# EAGLE library part STM8S003F3 (library comp_RFSwitch_v3)
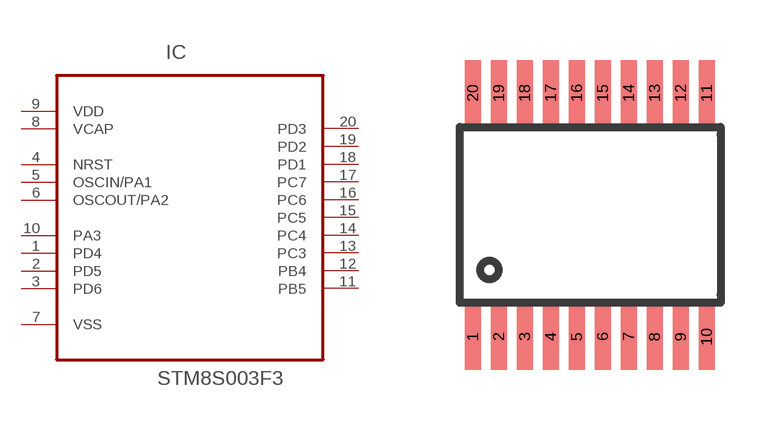
[diagram p5: symbol with the pads of TSSOP20; footprint TSSOP20]

Designator prefix IC

## STM8S003F3  [TSSOP20]
1  PD4
2  PD5
3  PD6
4  NRST
5  OSCIN/PA1
6  OSCOUT/PA2
7  VSS  pwr
8  VCAP  pwr
9  VDD  pwr
10  PA3
11  PB5
12  PB4
13  PC3
14  PC4
15  PC5
16  PC6
17  PC7
18  PD1
19  PD2
20  PD3

## Footprint TSSOP20 (pad centres in mm)
smd 0.4 x 1.65: 1 -3.575,-3.05; 2 -2.925,-3.05; 3 -2.275,-3.05; 4 -1.625,-3.05; 5 -0.975,-3.05; 6 -0.325,-3.05; 7 0.325,-3.05; 8 0.975,-3.05; 9 1.625,-3.05; 10 2.275,-3.05; 11 2.275,3.05; 12 1.625,3.05; 13 0.975,3.05; 14 0.325,3.05; 15 -0.325,3.05; 16 -0.975,3.05; 17 -1.625,3.05; 18 -2.275,3.05; 19 -2.925,3.05; 20 -3.575,3.05